# EAGLE library part CD74HC4511 (library bschulz)
CD74HC4511 - BCD to 7 Segement Latch/Decoder/Driver Characteristics: VCC: 2 ~ 6V Output Current: >7.5mA Operating Temperature: -55°C to 125°C Digikey: 296-23208-1-ND (TSSOP) <https://www.digikey.com/en/products/detail/texas-instruments/CD74HC4511PWR/1507307> 296-24355-1-ND (SOIC) <https://www.digikey.com/en/products/detail/texas-instruments/CD74HC4511M96/1507302>
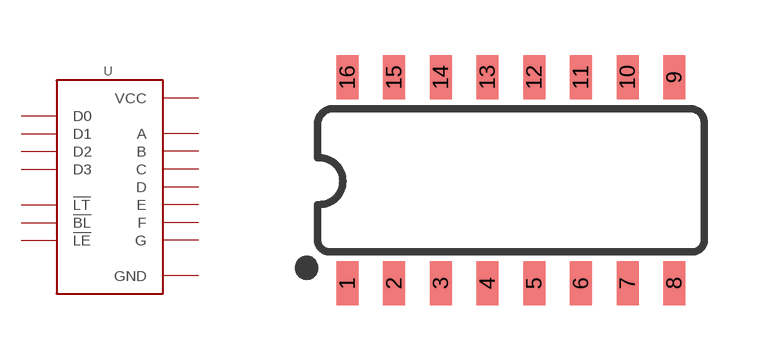
[diagram p187: symbol with the pads of SO16; footprint SO16]

Designator prefix U

## CD74HC4511D (DIGIKEY: 296-24355-1-ND; DISP: CD74HC4511; MF: TI; MPN: CD74HC4511M96)  [SO16]
1  D1  in
2  D2  in
3  !LT  in
4  !BL  in
5  !LE  in
6  D3  in
7  D0  in
8  GND  pwr
9  E  out
10  D  out
11  C  out
12  B  out
13  A  out
14  G  out
15  F  out
16  VCC  pwr

## Footprint SO16 (pad centres in mm)
SOIC, 0.15 inch width
smd 0.6 x 1.2: 1 -4.445,-2.8; 2 -3.175,-2.8; 3 -1.905,-2.8; 4 -0.635,-2.8; 5 0.635,-2.8; 6 1.905,-2.8; 7 3.175,-2.8; 8 4.445,-2.8; 9 4.445,2.8; 10 3.175,2.8; 11 1.905,2.8; 12 0.635,2.8; 13 -0.635,2.8; 14 -1.905,2.8; 15 -3.175,2.8; 16 -4.445,2.8